# Altium footprint library PcbLib1.PcbLib: 3 footprints
Each footprint in its own frame and in the unit in brackets; x right, y up, seen from the top. Pads: shape width x height; smd on the part's side, far side on the other; paste and mask are expansions set on the pad; w line width, h text height; cw(c..) or ccw(c..) is an arc to the next point about the centre after c.
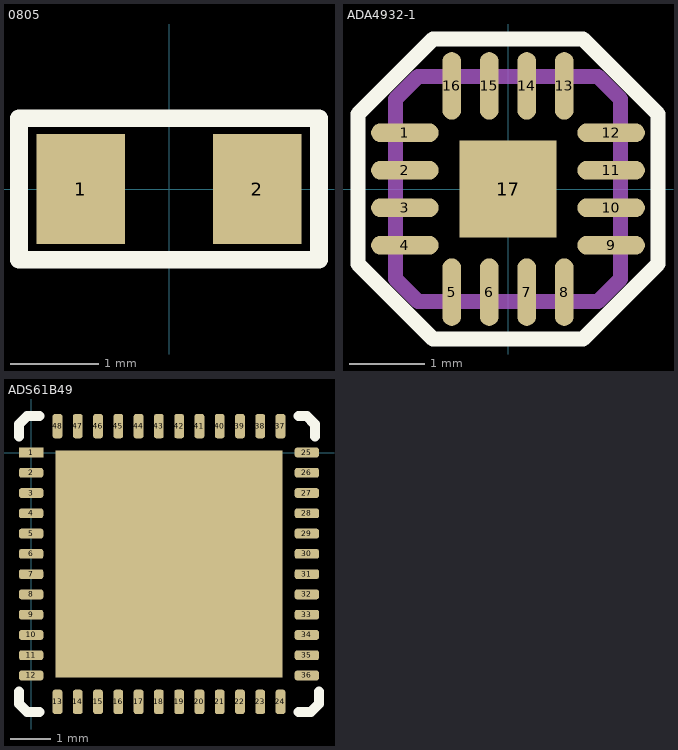
[diagram p0: the footprints below, top view; thin cyan lines are the x and y axes]

## 0805 [mm]
pads (2):
  rect 1x1.25 smd: 1(-1,0) 2(1,0)
Top Overlay:
  lines w0.2: -1.7,-0.8 -1.7,0.8 1.7,0.8 1.7,-0.8 -1.7,-0.8
3D body "User Library-User Library-0805_Res1.STEP": height 0.8, standoff 0, extent -1.4,-0.625 1.4,0.625

## ADA4932-1 [mm] "ADA4932-1"
height 0.025
pads (17):
  oval 0.9x0.25 smd: 1(-1.375,0.75) 2(-1.375,0.25) 3(-1.375,-0.25) 4(-1.375,-0.75) 9(1.375,-0.75) 10(1.375,-0.25) 11(1.375,0.25) 12(1.375,0.75)
  oval 0.25x0.9 smd: 5(-0.75,-1.375) 6(-0.25,-1.375) 7(0.25,-1.375) 8(0.75,-1.375) 13(0.75,1.375) 14(0.25,1.375) 15(-0.25,1.375) 16(-0.75,1.375)
  rect 1.3x1.3 smd: 17(0,0)
Top Overlay:
  lines w0.2: -2,-1 -2,1 -1,2 1,2 2,1 2,-1 1,-2 -1,-2 -2,-1
Mechanical 13:
  lines w0.2: -1.5,-1.2 -1.5,1.2 -1.2,1.5 1.2,1.5 1.5,1.2 1.5,-1.2 1.2,-1.5 -1.2,-1.5 -1.5,-1.2

## ADS61B49 [mm]
pads (49):
  rect 0.6x0.24 smd: 1(0,0)
  rrect50% 0.6x0.24 smd: 2(0,-0.5) 3(0,-1) 4(0,-1.5) 5(0,-2) 6(0,-2.5) 7(0,-3) 8(0,-3.5) 9(0,-4) 10(0,-4.5) 11(0,-5) 12(0,-5.5) 25(6.8,0) 26(6.8,-0.5) 27(6.8,-1) 28(6.8,-1.5) 29(6.8,-2) 30(6.8,-2.5) 31(6.8,-3) 32(6.8,-3.5) 33(6.8,-4) 34(6.8,-4.5) 35(6.8,-5) 36(6.8,-5.5)
  rrect50% 0.24x0.6 smd: 13(0.65,-6.15) 14(1.15,-6.15) 15(1.65,-6.15) 16(2.15,-6.15) 17(2.65,-6.15) 18(3.15,-6.15) 19(3.65,-6.15) 20(4.15,-6.15) 21(4.65,-6.15) 22(5.15,-6.15) 23(5.65,-6.15) 24(6.15,-6.15) 37(6.15,0.65) 38(5.65,0.65) 39(5.15,0.65) 40(4.65,0.65) 41(4.15,0.65) 42(3.65,0.65) 43(3.15,0.65) 44(2.65,0.65) 45(2.15,0.65) 46(1.65,0.65) 47(1.15,0.65) 48(0.65,0.65)
  rect 5.6x5.6 smd: ""(3.4,-2.75)
Top Overlay:
  lines w0.254: -0.3,-5.9 -0.3,-6.2 -0.1,-6.4 0.2,-6.4 ; -0.3,0.4 -0.3,0.7 -0.1,0.9 0.2,0.9 ; 6.6,-6.4 6.9,-6.4 7.1,-6.2 7.1,-5.9 ; 6.6,0.9 6.8,0.9 7,0.7 7,0.4